# Altium integrated library NSC MiscPower.IntLib: 742 symbols (part 9 of 19)
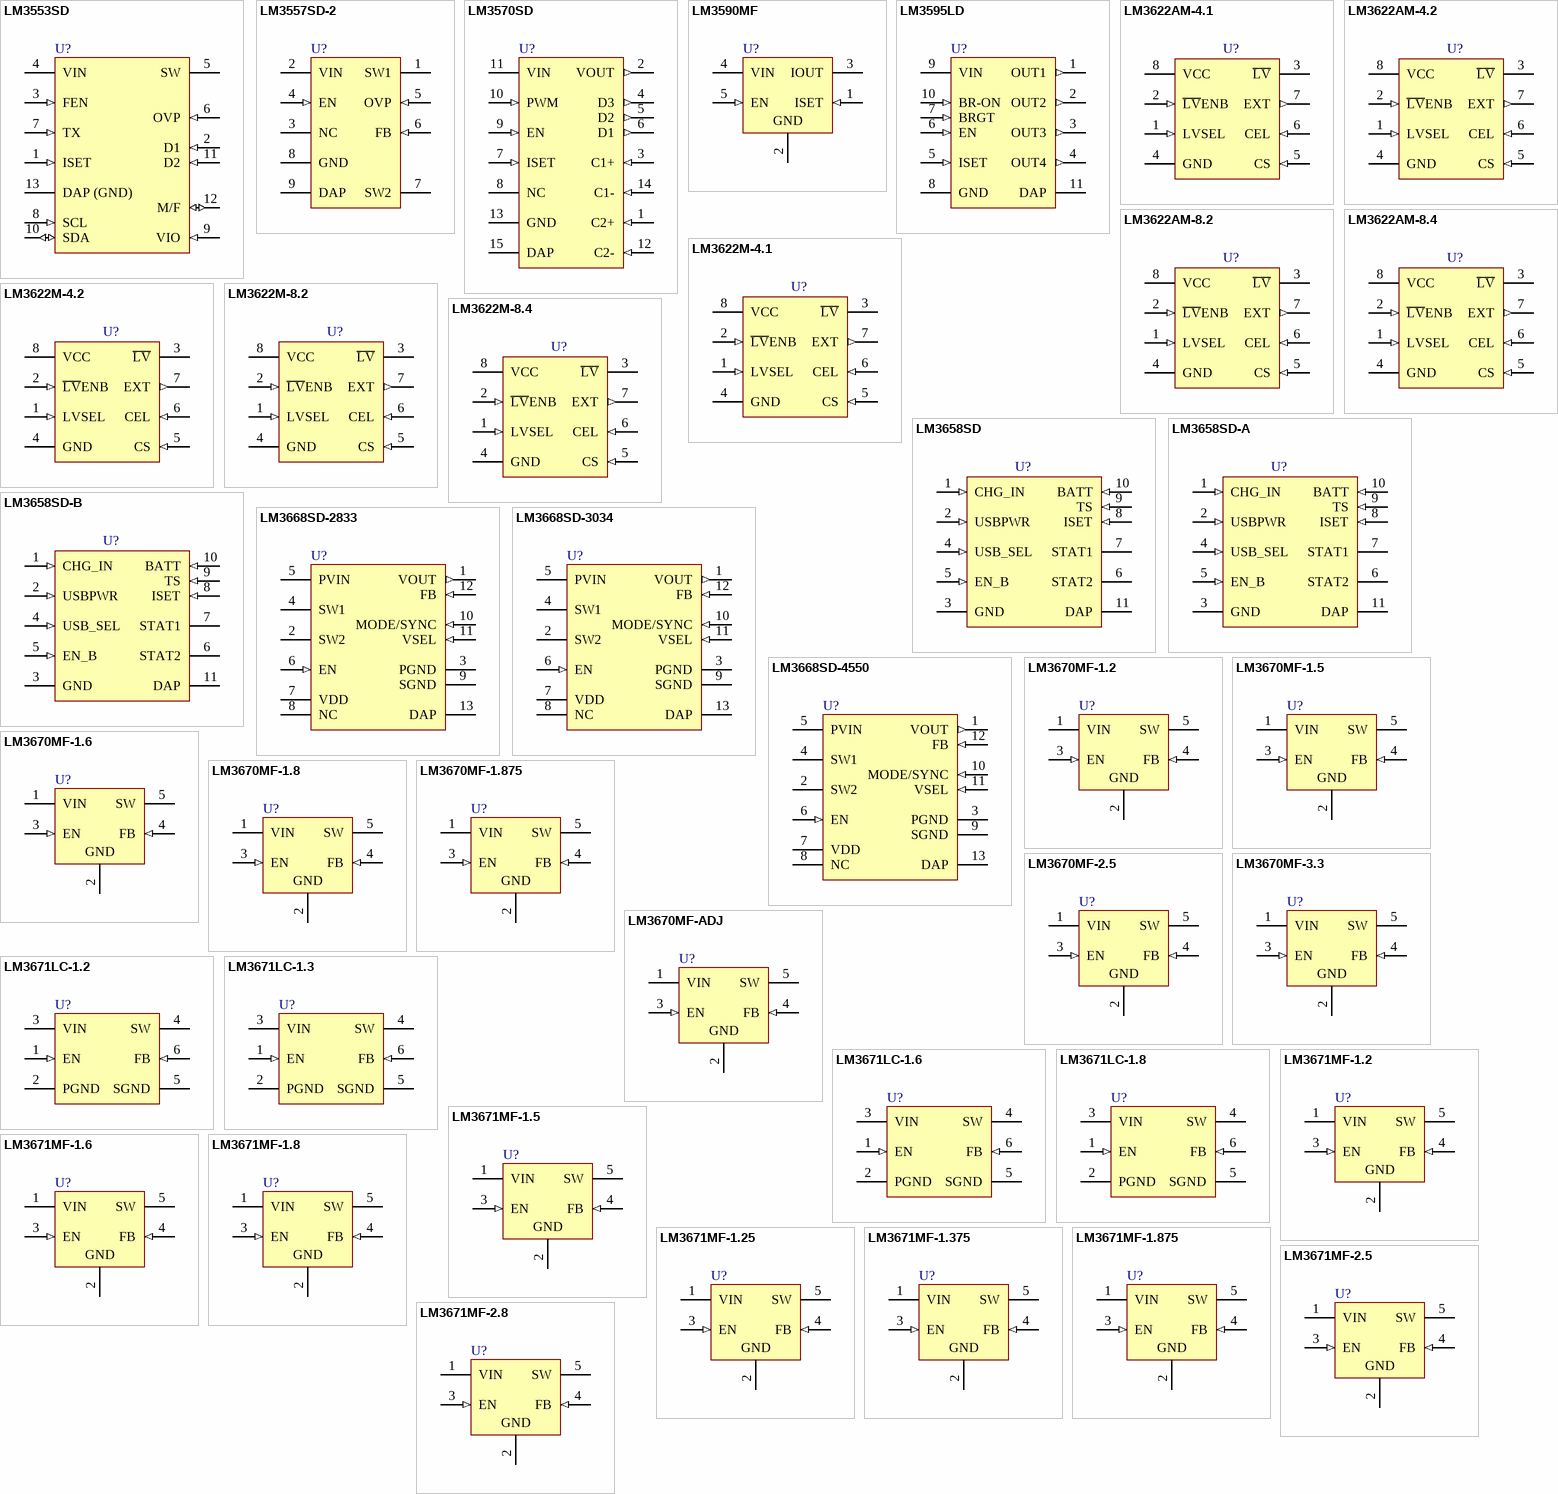
[diagram p33: symbols LM3553SD to LM3671MF-2.8]

## LM3557SD-2
designator U?
Step-Up Converter for White LED Applications; PartNumber: LM3557SD-2; Manufacturer: National Semiconductor; CompType: MiscPower; PackageTopMarking: ZXYTT*L147B; PowerWise: Y; FirstPublished: 4-Dec-2008; DatasheetVersion: May-2000; PackageVersion: revA, Aug-2003; PackageReference: SDA08A; Publisher: Altium Limited; PackageDescription: LLP, Plastic, Dual, 3 x 3 x 0.8mm Body, 8 Lead, 0.5mm Pitch, No Pullback; RoHS: Y; PinCount: 8; DigiKeyPartNumber: LM3557SD-2CT-ND; ComponentLink1Description: LM3557 Datasheet; ComponentLink1URL: http://www.national.com/ds/LM/LM3557.pdf; ComponentLink2Description: LM3557 Web Page; ComponentLink2URL: http://www.national.com/pf/LM/LM3557.html; ComponentLink3Description: SDA08A Package Page; ComponentLink3URL: http://www.national.com/packaging/folders/sda08a.html
footprint SDA08A (SON, 8-Leads, Body 3x3mm, Pitch 0.5mm, NSC Recommended)
pins: 1 SW1 (power), 2 VIN (power), 3 NC, 4 EN (in), 5 OVP (in), 6 FB (in), 7 SW2 (power), 8 GND (power), 9 DAP (power)

## LM3570SD
designator U?
Low Noise White LED Driver System; PartNumber: LM3570SD; Manufacturer: National Semiconductor; CompType: MiscPower; PackageTopMarking: ZXYTT*L3570; PowerWise: Y; FirstPublished: 4-Dec-2008; DatasheetVersion: Jul-2004; PackageVersion: revA, Jun-2003; PackageReference: SDA14A; Publisher: Altium Limited; PackageDescription: LLP, Plastic, Dual, 4 x 3 x 0.8mm Body, 14 Lead, 0.5mm Pitch, No Pullback; RoHS: O; PinCount: 14; DigiKeyPartNumber: LM3570SDCT-ND; ComponentLink1Description: LM3570 Datasheet; ComponentLink1URL: http://www.national.com/ds/LM/LM3570.pdf; ComponentLink2Description: LM3570 Web Page; ComponentLink2URL: http://www.national.com/pf/LM/LM3570.html; ComponentLink3Description: SDA14A Package Page; ComponentLink3URL: http://www.national.com/packaging/folders/sda14a.html
footprint SDA14A (SON, 14-Leads, Body 4x3mm, Pitch 0.5mm, NSC Recommended)
pins: 1 C2+ (in), 2 VOUT (out), 3 C1+ (in), 4 D3 (out), 5 D2 (out), 6 D1 (out), 7 ISET (in), 8 NC, 9 EN (in), 10 PWM (in), 11 VIN (power), 12 C2- (in), 13 GND (power), 14 C1- (in), 15 DAP (power)

## LM3590MF
designator U?
Series White LED Driver; PartNumber: LM3590MF; Manufacturer: National Semiconductor; CompType: MiscPower; PackageTopMarking: SABB*XTT; PowerWise: Y; FirstPublished: 4-Dec-2008; DatasheetVersion: Nov-2003; PackageVersion: revD, Aug-2008; PackageReference: MF05A; Publisher: Altium Limited; PackageDescription: Molded SOT-23, .115 x .063 x .040 in Body, 5 Lead, .0375 in Pitch; RoHS: O; PinCount: 5; DigiKeyPartNumber: LM3590MFEV-ND; ComponentLink1Description: LM3590 Datasheet; ComponentLink1URL: http://www.national.com/ds/LM/LM3590.pdf; ComponentLink2Description: LM3590 Web Page; ComponentLink2URL: http://www.national.com/pf/LM/LM3590.html; ComponentLink3Description: MF05A Package Page; ComponentLink3URL: http://www.national.com/packaging/folders/mf05a.html
footprint MF05A_N (SOT23, 5-Leads, Body 2.9x1.6mm, Pitch 0.95mm, Lead Span 2.8mm, IPC Medium Density)
footprint MF05A_L (SOT23, 5-Leads, Body 2.9x1.6mm, Pitch 0.95mm, Lead Span 2.8mm, IPC High Density)
footprint MF05A_M (SOT23, 5-Leads, Body 2.9x1.6mm, Pitch 0.95mm, Lead Span 2.8mm, IPC Low Density)
pins: 1 ISET (in), 2 GND (power), 3 IOUT (power), 4 VIN (power), 5 EN (in)

## LM3595LD
designator U?
Parallel White-LED Driver; PartNumber: LM3595LD; Manufacturer: National Semiconductor; CompType: MiscPower; PackageTopMarking: ZXYTT*L3595; PowerWise: Y; FirstPublished: 4-Dec-2008; DatasheetVersion: Aug-2003; PackageVersion: revB, Jan-2003; PackageReference: LDA10A; Publisher: Altium Limited; PackageDescription: LLP, Plastic, Dual, 3 x 3 x 0.75mm Body, 10 Lead, 0.5mm Pitch; RoHS: O; PinCount: 10; DigiKeyPartNumber: LM3595LDEV-ND; ComponentLink1Description: LM3595 Datasheet; ComponentLink1URL: http://www.national.com/ds/LM/LM3595.pdf; ComponentLink2Description: LM3595 Web Page; ComponentLink2URL: http://www.national.com/pf/LM/LM3595.html; ComponentLink3Description: LDA10A Package Page; ComponentLink3URL: http://www.national.com/packaging/folders/lda10a.html
footprint LDA10A (PSON, 10-Leads, Body 3x3mm, Pitch 0.5mm, NSC Recommended)
pins: 1 OUT1 (out), 2 OUT2 (out), 3 OUT3 (out), 4 OUT4 (out), 5 ISET (in), 6 EN (in), 7 BRGT (in), 8 GND (power), 9 VIN (power), 10 BR-ON (in), 11 DAP (power)

## LM3622AM-4.1
designator U?
Lithium-Ion Battery Charge Controller; PartNumber: LM3622AM-4.1; Manufacturer: National Semiconductor; CompType: MiscPower; PackageTopMarking: NSZXTT*3622A*M-4.1; FirstPublished: 4-Dec-2008; DatasheetVersion: Feb-2000; PackageVersion: revL, Sep-2006; PackageReference: M08A; Publisher: Altium Limited; PackageDescription: SOIC Narrow, 4.9 x 3.9 x 1.45mm, 8 Lead, 1.27mm Pitch; RoHS: Y; PinCount: 8; DigiKeyPartNumber: LM3622AM-4.1-ND; Code_JEDEC: MS-012-AA; Code_IPC: SOIC127P600-8; ComponentLink1Description: LM3622 Datasheet; ComponentLink1URL: http://www.national.com/ds/LM/LM3622.pdf; ComponentLink2Description: LM3622 Web Page; ComponentLink2URL: http://www.national.com/pf/LM/LM3622.html; ComponentLink3Description: M08A Package Page; ComponentLink3URL: http://www.national.com/packaging/folders/m08a.html
footprint M08A_N (SOIC, 8-Leads, Body 4.9x3.9mm, Pitch 1.27mm, IPC Medium Density)
footprint M08A_L (SOIC, 8-Leads, Body 4.9x3.9mm, Pitch 1.27mm, IPC High Density)
footprint M08A_M (SOIC, 8-Leads, Body 4.9x3.9mm, Pitch 1.27mm, IPC Low Density)
pins: 1 LVSEL (in), 2 ~{LV}ENB (in), 3 ~{LV} (oc), 4 GND (power), 5 CS (in), 6 CEL (in), 7 EXT (out), 8 VCC (power)

## LM3622AM-4.2
designator U?
Lithium-Ion Battery Charge Controller; PartNumber: LM3622AM-4.2; Manufacturer: National Semiconductor; CompType: MiscPower; PackageTopMarking: NSZXTT*3622A*M-4.2; FirstPublished: 4-Dec-2008; DatasheetVersion: Feb-2000; PackageVersion: revL, Sep-2006; PackageReference: M08A; Publisher: Altium Limited; PackageDescription: SOIC Narrow, 4.9 x 3.9 x 1.45mm, 8 Lead, 1.27mm Pitch; RoHS: Y; PinCount: 8; DigiKeyPartNumber: LM3622AM-4.2-ND; Code_JEDEC: MS-012-AA; Code_IPC: SOIC127P600-8; ComponentLink1Description: LM3622 Datasheet; ComponentLink1URL: http://www.national.com/ds/LM/LM3622.pdf; ComponentLink2Description: LM3622 Web Page; ComponentLink2URL: http://www.national.com/pf/LM/LM3622.html; ComponentLink3Description: M08A Package Page; ComponentLink3URL: http://www.national.com/packaging/folders/m08a.html
footprint M08A_N (SOIC, 8-Leads, Body 4.9x3.9mm, Pitch 1.27mm, IPC Medium Density)
footprint M08A_L (SOIC, 8-Leads, Body 4.9x3.9mm, Pitch 1.27mm, IPC High Density)
footprint M08A_M (SOIC, 8-Leads, Body 4.9x3.9mm, Pitch 1.27mm, IPC Low Density)
pins: 1 LVSEL (in), 2 ~{LV}ENB (in), 3 ~{LV} (oc), 4 GND (power), 5 CS (in), 6 CEL (in), 7 EXT (out), 8 VCC (power)

## LM3622AM-8.2
designator U?
Lithium-Ion Battery Charge Controller; PartNumber: LM3622AM-8.2; Manufacturer: National Semiconductor; CompType: MiscPower; PackageTopMarking: NSZXTT*3622A*M-8.2; FirstPublished: 4-Dec-2008; DatasheetVersion: Feb-2000; PackageVersion: revL, Sep-2006; PackageReference: M08A; Publisher: Altium Limited; PackageDescription: SOIC Narrow, 4.9 x 3.9 x 1.45mm, 8 Lead, 1.27mm Pitch; RoHS: N; PinCount: 8; DigiKeyPartNumber: LM3622AM-8.2-ND; Code_JEDEC: MS-012-AA; Code_IPC: SOIC127P600-8; ComponentLink1Description: LM3622 Datasheet; ComponentLink1URL: http://www.national.com/ds/LM/LM3622.pdf; ComponentLink2Description: LM3622 Web Page; ComponentLink2URL: http://www.national.com/pf/LM/LM3622.html; ComponentLink3Description: M08A Package Page; ComponentLink3URL: http://www.national.com/packaging/folders/m08a.html
footprint M08A_N (SOIC, 8-Leads, Body 4.9x3.9mm, Pitch 1.27mm, IPC Medium Density)
footprint M08A_L (SOIC, 8-Leads, Body 4.9x3.9mm, Pitch 1.27mm, IPC High Density)
footprint M08A_M (SOIC, 8-Leads, Body 4.9x3.9mm, Pitch 1.27mm, IPC Low Density)
pins: 1 LVSEL (in), 2 ~{LV}ENB (in), 3 ~{LV} (oc), 4 GND (power), 5 CS (in), 6 CEL (in), 7 EXT (out), 8 VCC (power)

## LM3622AM-8.4
designator U?
Lithium-Ion Battery Charge Controller; PartNumber: LM3622AM-8.4; Manufacturer: National Semiconductor; CompType: MiscPower; PackageTopMarking: NSZXTT*3622A*M-8.4; FirstPublished: 4-Dec-2008; DatasheetVersion: Feb-2000; PackageVersion: revL, Sep-2006; PackageReference: M08A; Publisher: Altium Limited; PackageDescription: SOIC Narrow, 4.9 x 3.9 x 1.45mm, 8 Lead, 1.27mm Pitch; RoHS: Y; PinCount: 8; DigiKeyPartNumber: LM3622AM-8.4-ND; Code_JEDEC: MS-012-AA; Code_IPC: SOIC127P600-8; ComponentLink1Description: LM3622 Datasheet; ComponentLink1URL: http://www.national.com/ds/LM/LM3622.pdf; ComponentLink2Description: LM3622 Web Page; ComponentLink2URL: http://www.national.com/pf/LM/LM3622.html; ComponentLink3Description: M08A Package Page; ComponentLink3URL: http://www.national.com/packaging/folders/m08a.html
footprint M08A_N (SOIC, 8-Leads, Body 4.9x3.9mm, Pitch 1.27mm, IPC Medium Density)
footprint M08A_L (SOIC, 8-Leads, Body 4.9x3.9mm, Pitch 1.27mm, IPC High Density)
footprint M08A_M (SOIC, 8-Leads, Body 4.9x3.9mm, Pitch 1.27mm, IPC Low Density)
pins: 1 LVSEL (in), 2 ~{LV}ENB (in), 3 ~{LV} (oc), 4 GND (power), 5 CS (in), 6 CEL (in), 7 EXT (out), 8 VCC (power)

## LM3622M-4.1
designator U?
Lithium-Ion Battery Charge Controller; PartNumber: LM3622M-4.1; Manufacturer: National Semiconductor; CompType: MiscPower; PackageTopMarking: NSZXTT*3622*M-4.1; FirstPublished: 4-Dec-2008; DatasheetVersion: Feb-2000; PackageVersion: revL, Sep-2006; PackageReference: M08A; Publisher: Altium Limited; PackageDescription: SOIC Narrow, 4.9 x 3.9 x 1.45mm, 8 Lead, 1.27mm Pitch; RoHS: Y; PinCount: 8; DigiKeyPartNumber: LM3622M-4.1-ND; Code_JEDEC: MS-012-AA; Code_IPC: SOIC127P600-8; ComponentLink1Description: LM3622 Datasheet; ComponentLink1URL: http://www.national.com/ds/LM/LM3622.pdf; ComponentLink2Description: LM3622 Web Page; ComponentLink2URL: http://www.national.com/pf/LM/LM3622.html; ComponentLink3Description: M08A Package Page; ComponentLink3URL: http://www.national.com/packaging/folders/m08a.html
footprint M08A_N (SOIC, 8-Leads, Body 4.9x3.9mm, Pitch 1.27mm, IPC Medium Density)
footprint M08A_L (SOIC, 8-Leads, Body 4.9x3.9mm, Pitch 1.27mm, IPC High Density)
footprint M08A_M (SOIC, 8-Leads, Body 4.9x3.9mm, Pitch 1.27mm, IPC Low Density)
pins: 1 LVSEL (in), 2 ~{LV}ENB (in), 3 ~{LV} (oc), 4 GND (power), 5 CS (in), 6 CEL (in), 7 EXT (out), 8 VCC (power)

## LM3622M-4.2
designator U?
Lithium-Ion Battery Charge Controller; PartNumber: LM3622M-4.2; Manufacturer: National Semiconductor; CompType: MiscPower; PackageTopMarking: NSZXTT*3622*M-4.2; FirstPublished: 4-Dec-2008; DatasheetVersion: Feb-2000; PackageVersion: revL, Sep-2006; PackageReference: M08A; Publisher: Altium Limited; PackageDescription: SOIC Narrow, 4.9 x 3.9 x 1.45mm, 8 Lead, 1.27mm Pitch; RoHS: Y; PinCount: 8; DigiKeyPartNumber: LM3622M-4.2-ND; Code_JEDEC: MS-012-AA; Code_IPC: SOIC127P600-8; ComponentLink1Description: LM3622 Datasheet; ComponentLink1URL: http://www.national.com/ds/LM/LM3622.pdf; ComponentLink2Description: LM3622 Web Page; ComponentLink2URL: http://www.national.com/pf/LM/LM3622.html; ComponentLink3Description: M08A Package Page; ComponentLink3URL: http://www.national.com/packaging/folders/m08a.html
footprint M08A_N (SOIC, 8-Leads, Body 4.9x3.9mm, Pitch 1.27mm, IPC Medium Density)
footprint M08A_L (SOIC, 8-Leads, Body 4.9x3.9mm, Pitch 1.27mm, IPC High Density)
footprint M08A_M (SOIC, 8-Leads, Body 4.9x3.9mm, Pitch 1.27mm, IPC Low Density)
pins: 1 LVSEL (in), 2 ~{LV}ENB (in), 3 ~{LV} (oc), 4 GND (power), 5 CS (in), 6 CEL (in), 7 EXT (out), 8 VCC (power)

## LM3622M-8.2
designator U?
Lithium-Ion Battery Charge Controller; PartNumber: LM3622M-8.2; Manufacturer: National Semiconductor; CompType: MiscPower; PackageTopMarking: NSZXTT*3622*M-8.2; FirstPublished: 4-Dec-2008; DatasheetVersion: Feb-2000; PackageVersion: revL, Sep-2006; PackageReference: M08A; Publisher: Altium Limited; PackageDescription: SOIC Narrow, 4.9 x 3.9 x 1.45mm, 8 Lead, 1.27mm Pitch; RoHS: Y; PinCount: 8; DigiKeyPartNumber: LM3622M-8.2-ND; Code_JEDEC: MS-012-AA; Code_IPC: SOIC127P600-8; ComponentLink1Description: LM3622 Datasheet; ComponentLink1URL: http://www.national.com/ds/LM/LM3622.pdf; ComponentLink2Description: LM3622 Web Page; ComponentLink2URL: http://www.national.com/pf/LM/LM3622.html; ComponentLink3Description: M08A Package Page; ComponentLink3URL: http://www.national.com/packaging/folders/m08a.html
footprint M08A_N (SOIC, 8-Leads, Body 4.9x3.9mm, Pitch 1.27mm, IPC Medium Density)
footprint M08A_L (SOIC, 8-Leads, Body 4.9x3.9mm, Pitch 1.27mm, IPC High Density)
footprint M08A_M (SOIC, 8-Leads, Body 4.9x3.9mm, Pitch 1.27mm, IPC Low Density)
pins: 1 LVSEL (in), 2 ~{LV}ENB (in), 3 ~{LV} (oc), 4 GND (power), 5 CS (in), 6 CEL (in), 7 EXT (out), 8 VCC (power)

## LM3622M-8.4
designator U?
Lithium-Ion Battery Charge Controller; PartNumber: LM3622M-8.4; Manufacturer: National Semiconductor; CompType: MiscPower; PackageTopMarking: NSZXTT*3622*M-8.4; FirstPublished: 4-Dec-2008; DatasheetVersion: Feb-2000; PackageVersion: revL, Sep-2006; PackageReference: M08A; Publisher: Altium Limited; PackageDescription: SOIC Narrow, 4.9 x 3.9 x 1.45mm, 8 Lead, 1.27mm Pitch; RoHS: Y; PinCount: 8; DigiKeyPartNumber: LM3622M-8.4-ND; Code_JEDEC: MS-012-AA; Code_IPC: SOIC127P600-8; ComponentLink1Description: LM3622 Datasheet; ComponentLink1URL: http://www.national.com/ds/LM/LM3622.pdf; ComponentLink2Description: LM3622 Web Page; ComponentLink2URL: http://www.national.com/pf/LM/LM3622.html; ComponentLink3Description: M08A Package Page; ComponentLink3URL: http://www.national.com/packaging/folders/m08a.html
footprint M08A_N (SOIC, 8-Leads, Body 4.9x3.9mm, Pitch 1.27mm, IPC Medium Density)
footprint M08A_L (SOIC, 8-Leads, Body 4.9x3.9mm, Pitch 1.27mm, IPC High Density)
footprint M08A_M (SOIC, 8-Leads, Body 4.9x3.9mm, Pitch 1.27mm, IPC Low Density)
pins: 1 LVSEL (in), 2 ~{LV}ENB (in), 3 ~{LV} (oc), 4 GND (power), 5 CS (in), 6 CEL (in), 7 EXT (out), 8 VCC (power)

## LM3658SD
designator U?
Dual Source USB/AC Li Chemistry Charger IC for Portable Applications; PartNumber: LM3658SD; Manufacturer: National Semiconductor; CompType: MiscPower; PackageTopMarking: ZXYTT*L111B; PowerWise: N; FirstPublished: 4-Dec-2008; DatasheetVersion: Nov-2006; PackageVersion: revA, Oct-2003; PackageReference: SDA10A; Publisher: Altium Limited; PackageDescription: LLP, Plastic, Dual, 3 x 3 x 0.8mm Body, 10 Lead, 0.5mm Pitch, No Pullback; RoHS: Y; PinCount: 10; DigiKeyPartNumber: LM3658SDCT-ND; ComponentLink1Description: LM3658 Datasheet; ComponentLink1URL: http://www.national.com/ds/LM/LM3658.pdf; ComponentLink2Description: LM3658 Web Page; ComponentLink2URL: http://www.national.com/pf/LM/LM3658.html; ComponentLink3Description: SDA10A Package Page; ComponentLink3URL: http://www.national.com/packaging/folders/sda10a.html
footprint SDA10A (SON, 10-Leads, Body 3x3 mm, Pitch 0.5mm, NSC Recommended)
pins: 1 CHG_IN (in), 2 USBPWR (in), 3 GND (power), 4 USB_SEL (in), 5 EN_B (in), 6 STAT2 (oc), 7 STAT1 (oc), 8 ISET (in), 9 TS (in), 10 BATT (in), 11 DAP (power)

## LM3658SD-A
designator U?
Dual Source USB/AC Li Chemistry Charger IC for Portable Applications; PartNumber: LM3658SD-A; Manufacturer: National Semiconductor; CompType: MiscPower; PackageTopMarking: ZXYTT*L155B; PowerWise: N; FirstPublished: 4-Dec-2008; DatasheetVersion: Nov-2006; PackageVersion: revA, Oct-2003; PackageReference: SDA10A; Publisher: Altium Limited; PackageDescription: LLP, Plastic, Dual, 3 x 3 x 0.8mm Body, 10 Lead, 0.5mm Pitch, No Pullback; RoHS: Y; PinCount: 10; DigiKeyPartNumber: LM3658SD-ACT-ND; ComponentLink1Description: LM3658 Datasheet; ComponentLink1URL: http://www.national.com/ds/LM/LM3658.pdf; ComponentLink2Description: LM3658 Web Page; ComponentLink2URL: http://www.national.com/pf/LM/LM3658.html; ComponentLink3Description: SDA10A Package Page; ComponentLink3URL: http://www.national.com/packaging/folders/sda10a.html
footprint SDA10A (SON, 10-Leads, Body 3x3 mm, Pitch 0.5mm, NSC Recommended)
pins: 1 CHG_IN (in), 2 USBPWR (in), 3 GND (power), 4 USB_SEL (in), 5 EN_B (in), 6 STAT2 (oc), 7 STAT1 (oc), 8 ISET (in), 9 TS (in), 10 BATT (in), 11 DAP (power)

## LM3658SD-B
designator U?
Dual Source USB/AC Li Chemistry Charger IC for Portable Applications; PartNumber: LM3658SD-B; Manufacturer: National Semiconductor; CompType: MiscPower; PackageTopMarking: ZXYTT*L156B; PowerWise: N; FirstPublished: 4-Dec-2008; DatasheetVersion: Nov-2006; PackageVersion: revA, Oct-2003; PackageReference: SDA10A; Publisher: Altium Limited; PackageDescription: LLP, Plastic, Dual, 3 x 3 x 0.8mm Body, 10 Lead, 0.5mm Pitch, No Pullback; RoHS: Y; PinCount: 10; DigiKeyPartNumber: LM3658SD-BCT-ND; ComponentLink1Description: LM3658 Datasheet; ComponentLink1URL: http://www.national.com/ds/LM/LM3658.pdf; ComponentLink2Description: LM3658 Web Page; ComponentLink2URL: http://www.national.com/pf/LM/LM3658.html; ComponentLink3Description: SDA10A Package Page; ComponentLink3URL: http://www.national.com/packaging/folders/sda10a.html
footprint SDA10A (SON, 10-Leads, Body 3x3 mm, Pitch 0.5mm, NSC Recommended)
pins: 1 CHG_IN (in), 2 USBPWR (in), 3 GND (power), 4 USB_SEL (in), 5 EN_B (in), 6 STAT2 (oc), 7 STAT1 (oc), 8 ISET (in), 9 TS (in), 10 BATT (in), 11 DAP (power)

## LM3668SD-2833
designator U?
1A, High Efficiency Dual Mode Single Inductor Buck-Boost DC/DC Converter; PartNumber: LM3668SD-2833; Manufacturer: National Semiconductor; CompType: MiscPower; PackageTopMarking: ZXYTT*S017B; PowerWise: Y; FirstPublished: 4-Dec-2008; DatasheetVersion: Sep-2008; PackageVersion: revB, Jul-2008; PackageReference: SDF12A; Publisher: Altium Limited; PackageDescription: LLP, Plastic, Dual, 3 x 3 x 0.8mm Body, 12 Lead, 0.4mm Pitch, No Pullback; RoHS: Y; PinCount: 12; DigiKeyPartNumber: LM3668SD-2833EV-ND; ComponentLink1Description: LM3668 Datasheet; ComponentLink1URL: http://www.national.com/ds/LM/LM3668.pdf; ComponentLink2Description: LM3668 Web Page; ComponentLink2URL: http://www.national.com/pf/LM/LM3668.html; ComponentLink3Description: SDF12A Package Page; ComponentLink3URL: http://www.national.com/packaging/folders/sdf12a.html
footprint SDF12A (SON, 12-Leads, Body 3x3mm, Pitch 0.4mm, NSC Recommended)
pins: 1 VOUT (out), 2 SW2 (power), 3 PGND (power), 4 SW1 (power), 5 PVIN (power), 6 EN (in), 7 VDD (power), 8 NC, 9 SGND (power), 10 MODE/SYNC (in), 11 VSEL (in), 12 FB (in), 13 DAP (power)

## LM3668SD-3034
designator U?
1A, High Efficiency Dual Mode Single Inductor Buck-Boost DC/DC Converter; PartNumber: LM3668SD-3034; Manufacturer: National Semiconductor; CompType: MiscPower; PackageTopMarking: ZXYTT*S018B; PowerWise: Y; FirstPublished: 4-Dec-2008; DatasheetVersion: Sep-2008; PackageVersion: revB, Jul-2008; PackageReference: SDF12A; Publisher: Altium Limited; PackageDescription: LLP, Plastic, Dual, 3 x 3 x 0.8mm Body, 12 Lead, 0.4mm Pitch, No Pullback; RoHS: Y; PinCount: 12; DigiKeyPartNumber: LM3668SD-3034EV-ND; ComponentLink1Description: LM3668 Datasheet; ComponentLink1URL: http://www.national.com/ds/LM/LM3668.pdf; ComponentLink2Description: LM3668 Web Page; ComponentLink2URL: http://www.national.com/pf/LM/LM3668.html; ComponentLink3Description: SDF12A Package Page; ComponentLink3URL: http://www.national.com/packaging/folders/sdf12a.html
footprint SDF12A (SON, 12-Leads, Body 3x3mm, Pitch 0.4mm, NSC Recommended)
pins: 1 VOUT (out), 2 SW2 (power), 3 PGND (power), 4 SW1 (power), 5 PVIN (power), 6 EN (in), 7 VDD (power), 8 NC, 9 SGND (power), 10 MODE/SYNC (in), 11 VSEL (in), 12 FB (in), 13 DAP (power)

## LM3668SD-4550
designator U?
1A, High Efficiency Dual Mode Single Inductor Buck-Boost DC/DC Converter; PartNumber: LM3668SD-4550; Manufacturer: National Semiconductor; CompType: MiscPower; PackageTopMarking: ZXYTT*S019B; PowerWise: Y; FirstPublished: 4-Dec-2008; DatasheetVersion: Sep-2008; PackageVersion: revB, Jul-2008; PackageReference: SDF12A; Publisher: Altium Limited; PackageDescription: LLP, Plastic, Dual, 3 x 3 x 0.8mm Body, 12 Lead, 0.4mm Pitch, No Pullback; RoHS: Y; PinCount: 12; DigiKeyPartNumber: LM3668SD-4550EV-ND; ComponentLink1Description: LM3668 Datasheet; ComponentLink1URL: http://www.national.com/ds/LM/LM3668.pdf; ComponentLink2Description: LM3668 Web Page; ComponentLink2URL: http://www.national.com/pf/LM/LM3668.html; ComponentLink3Description: SDF12A Package Page; ComponentLink3URL: http://www.national.com/packaging/folders/sdf12a.html
footprint SDF12A (SON, 12-Leads, Body 3x3mm, Pitch 0.4mm, NSC Recommended)
pins: 1 VOUT (out), 2 SW2 (power), 3 PGND (power), 4 SW1 (power), 5 PVIN (power), 6 EN (in), 7 VDD (power), 8 NC, 9 SGND (power), 10 MODE/SYNC (in), 11 VSEL (in), 12 FB (in), 13 DAP (power)

## LM3670MF-1.2
designator U?
Miniature Step-Down DC-DC Converter for Ultra Low Voltage Circuits; PartNumber: LM3670MF-1.2; Manufacturer: National Semiconductor; CompType: MiscPower; PackageTopMarking: SCZB*XTT; PowerWise: Y; FirstPublished: 4-Dec-2008; DatasheetVersion: Jan-2006; PackageVersion: revD, Aug-2008; PackageReference: MF05A; Publisher: Altium Limited; PackageDescription: Molded SOT-23, .115 x .063 x .040 in Body, 5 Lead, .0375 in Pitch; RoHS: Y; PinCount: 5; DigiKeyPartNumber: LM3670MF-1.2EV-ND; ComponentLink1Description: LM3670 Datasheet; ComponentLink1URL: http://www.national.com/ds/LM/LM3670.pdf; ComponentLink2Description: LM3670 Web Page; ComponentLink2URL: http://www.national.com/pf/LM/LM3670.html; ComponentLink3Description: MF05A Package Page; ComponentLink3URL: http://www.national.com/packaging/folders/mf05a.html
footprint MF05A_N (SOT23, 5-Leads, Body 2.9x1.6mm, Pitch 0.95mm, Lead Span 2.8mm, IPC Medium Density)
footprint MF05A_L (SOT23, 5-Leads, Body 2.9x1.6mm, Pitch 0.95mm, Lead Span 2.8mm, IPC High Density)
footprint MF05A_M (SOT23, 5-Leads, Body 2.9x1.6mm, Pitch 0.95mm, Lead Span 2.8mm, IPC Low Density)
pins: 1 VIN (power), 2 GND (power), 3 EN (in), 4 FB (in), 5 SW (power)

## LM3670MF-1.5
designator U?
Miniature Step-Down DC-DC Converter for Ultra Low Voltage Circuits; PartNumber: LM3670MF-1.5; Manufacturer: National Semiconductor; CompType: MiscPower; PackageTopMarking: S82B*XTT; PowerWise: Y; FirstPublished: 4-Dec-2008; DatasheetVersion: Jan-2006; PackageVersion: revD, Aug-2008; PackageReference: MF05A; Publisher: Altium Limited; PackageDescription: Molded SOT-23, .115 x .063 x .040 in Body, 5 Lead, .0375 in Pitch; RoHS: Y; PinCount: 5; DigiKeyPartNumber: LM3670MF-1.5EV-ND; ComponentLink1Description: LM3670 Datasheet; ComponentLink1URL: http://www.national.com/ds/LM/LM3670.pdf; ComponentLink2Description: LM3670 Web Page; ComponentLink2URL: http://www.national.com/pf/LM/LM3670.html; ComponentLink3Description: MF05A Package Page; ComponentLink3URL: http://www.national.com/packaging/folders/mf05a.html
footprint MF05A_N (SOT23, 5-Leads, Body 2.9x1.6mm, Pitch 0.95mm, Lead Span 2.8mm, IPC Medium Density)
footprint MF05A_L (SOT23, 5-Leads, Body 2.9x1.6mm, Pitch 0.95mm, Lead Span 2.8mm, IPC High Density)
footprint MF05A_M (SOT23, 5-Leads, Body 2.9x1.6mm, Pitch 0.95mm, Lead Span 2.8mm, IPC Low Density)
pins: 1 VIN (power), 2 GND (power), 3 EN (in), 4 FB (in), 5 SW (power)

## LM3670MF-1.6
designator U?
Miniature Step-Down DC-DC Converter for Ultra Low Voltage Circuits; PartNumber: LM3670MF-1.6; Manufacturer: National Semiconductor; CompType: MiscPower; PackageTopMarking: SDBB*XTT; PowerWise: Y; FirstPublished: 4-Dec-2008; DatasheetVersion: Jan-2006; PackageVersion: revD, Aug-2008; PackageReference: MF05A; Publisher: Altium Limited; PackageDescription: Molded SOT-23, .115 x .063 x .040 in Body, 5 Lead, .0375 in Pitch; RoHS: Y; PinCount: 5; DigiKeyPartNumber: LM3670MF-1.6CT-ND; ComponentLink1Description: LM3670 Datasheet; ComponentLink1URL: http://www.national.com/ds/LM/LM3670.pdf; ComponentLink2Description: LM3670 Web Page; ComponentLink2URL: http://www.national.com/pf/LM/LM3670.html; ComponentLink3Description: MF05A Package Page; ComponentLink3URL: http://www.national.com/packaging/folders/mf05a.html
footprint MF05A_N (SOT23, 5-Leads, Body 2.9x1.6mm, Pitch 0.95mm, Lead Span 2.8mm, IPC Medium Density)
footprint MF05A_L (SOT23, 5-Leads, Body 2.9x1.6mm, Pitch 0.95mm, Lead Span 2.8mm, IPC High Density)
footprint MF05A_M (SOT23, 5-Leads, Body 2.9x1.6mm, Pitch 0.95mm, Lead Span 2.8mm, IPC Low Density)
pins: 1 VIN (power), 2 GND (power), 3 EN (in), 4 FB (in), 5 SW (power)

## LM3670MF-1.8
designator U?
Miniature Step-Down DC-DC Converter for Ultra Low Voltage Circuits; PartNumber: LM3670MF-1.8; Manufacturer: National Semiconductor; CompType: MiscPower; PackageTopMarking: SDCB*XTT; PowerWise: Y; FirstPublished: 4-Dec-2008; DatasheetVersion: Jan-2006; PackageVersion: revD, Aug-2008; PackageReference: MF05A; Publisher: Altium Limited; PackageDescription: Molded SOT-23, .115 x .063 x .040 in Body, 5 Lead, .0375 in Pitch; RoHS: O; PinCount: 5; DigiKeyPartNumber: LM3670MF-1.8EV-ND; ComponentLink1Description: LM3670 Datasheet; ComponentLink1URL: http://www.national.com/ds/LM/LM3670.pdf; ComponentLink2Description: LM3670 Web Page; ComponentLink2URL: http://www.national.com/pf/LM/LM3670.html; ComponentLink3Description: MF05A Package Page; ComponentLink3URL: http://www.national.com/packaging/folders/mf05a.html
footprint MF05A_N (SOT23, 5-Leads, Body 2.9x1.6mm, Pitch 0.95mm, Lead Span 2.8mm, IPC Medium Density)
footprint MF05A_L (SOT23, 5-Leads, Body 2.9x1.6mm, Pitch 0.95mm, Lead Span 2.8mm, IPC High Density)
footprint MF05A_M (SOT23, 5-Leads, Body 2.9x1.6mm, Pitch 0.95mm, Lead Span 2.8mm, IPC Low Density)
pins: 1 VIN (power), 2 GND (power), 3 EN (in), 4 FB (in), 5 SW (power)

## LM3670MF-1.875
designator U?
Miniature Step-Down DC-DC Converter for Ultra Low Voltage Circuits; PartNumber: LM3670MF-1.875; Manufacturer: National Semiconductor; CompType: MiscPower; PackageTopMarking: SEFB*XTT; PowerWise: Y; FirstPublished: 4-Dec-2008; DatasheetVersion: Jan-2006; PackageVersion: revD, Aug-2008; PackageReference: MF05A; Publisher: Altium Limited; PackageDescription: Molded SOT-23, .115 x .063 x .040 in Body, 5 Lead, .0375 in Pitch; RoHS: Y; PinCount: 5; DigiKeyPartNumber: LM3670MF-1.875CT-ND; ComponentLink1Description: LM3670 Datasheet; ComponentLink1URL: http://www.national.com/ds/LM/LM3670.pdf; ComponentLink2Description: LM3670 Web Page; ComponentLink2URL: http://www.national.com/pf/LM/LM3670.html; ComponentLink3Description: MF05A Package Page; ComponentLink3URL: http://www.national.com/packaging/folders/mf05a.html
footprint MF05A_N (SOT23, 5-Leads, Body 2.9x1.6mm, Pitch 0.95mm, Lead Span 2.8mm, IPC Medium Density)
footprint MF05A_L (SOT23, 5-Leads, Body 2.9x1.6mm, Pitch 0.95mm, Lead Span 2.8mm, IPC High Density)
footprint MF05A_M (SOT23, 5-Leads, Body 2.9x1.6mm, Pitch 0.95mm, Lead Span 2.8mm, IPC Low Density)
pins: 1 VIN (power), 2 GND (power), 3 EN (in), 4 FB (in), 5 SW (power)

## LM3670MF-2.5
designator U?
Miniature Step-Down DC-DC Converter for Ultra Low Voltage Circuits; PartNumber: LM3670MF-2.5; Manufacturer: National Semiconductor; CompType: MiscPower; PackageTopMarking: SDDB*XTT; FirstPublished: 4-Dec-2008; DatasheetVersion: Jan-2006; PackageVersion: revD, Aug-2008; PackageReference: MF05A; Publisher: Altium Limited; PackageDescription: Molded SOT-23, .115 x .063 x .040 in Body, 5 Lead, .0375 in Pitch; RoHS: O; PinCount: 5; DigiKeyPartNumber: LM3670MF-2.5EV-ND; ComponentLink1Description: LM3670 Datasheet; ComponentLink1URL: http://www.national.com/ds/LM/LM3670.pdf; ComponentLink2Description: LM3670 Web Page; ComponentLink2URL: http://www.national.com/pf/LM/LM3670.html; ComponentLink3Description: MF05A Package Page; ComponentLink3URL: http://www.national.com/packaging/folders/mf05a.html
footprint MF05A_N (SOT23, 5-Leads, Body 2.9x1.6mm, Pitch 0.95mm, Lead Span 2.8mm, IPC Medium Density)
footprint MF05A_L (SOT23, 5-Leads, Body 2.9x1.6mm, Pitch 0.95mm, Lead Span 2.8mm, IPC High Density)
footprint MF05A_M (SOT23, 5-Leads, Body 2.9x1.6mm, Pitch 0.95mm, Lead Span 2.8mm, IPC Low Density)
pins: 1 VIN (power), 2 GND (power), 3 EN (in), 4 FB (in), 5 SW (power)

## LM3670MF-3.3
designator U?
Miniature Step-Down DC-DC Converter for Ultra Low Voltage Circuits; PartNumber: LM3670MF-3.3; Manufacturer: National Semiconductor; CompType: MiscPower; PackageTopMarking: SDEB*XTT; PowerWise: Y; FirstPublished: 4-Dec-2008; DatasheetVersion: Jan-2006; PackageVersion: revD, Aug-2008; PackageReference: MF05A; Publisher: Altium Limited; PackageDescription: Molded SOT-23, .115 x .063 x .040 in Body, 5 Lead, .0375 in Pitch; RoHS: O; PinCount: 5; DigiKeyPartNumber: LM3670MF-3.3CT-ND; ComponentLink1Description: LM3670 Datasheet; ComponentLink1URL: http://www.national.com/ds/LM/LM3670.pdf; ComponentLink2Description: LM3670 Web Page; ComponentLink2URL: http://www.national.com/pf/LM/LM3670.html; ComponentLink3Description: MF05A Package Page; ComponentLink3URL: http://www.national.com/packaging/folders/mf05a.html
footprint MF05A_N (SOT23, 5-Leads, Body 2.9x1.6mm, Pitch 0.95mm, Lead Span 2.8mm, IPC Medium Density)
footprint MF05A_L (SOT23, 5-Leads, Body 2.9x1.6mm, Pitch 0.95mm, Lead Span 2.8mm, IPC High Density)
footprint MF05A_M (SOT23, 5-Leads, Body 2.9x1.6mm, Pitch 0.95mm, Lead Span 2.8mm, IPC Low Density)
pins: 1 VIN (power), 2 GND (power), 3 EN (in), 4 FB (in), 5 SW (power)

## LM3670MF-ADJ
designator U?
Miniature Step-Down DC-DC Converter for Ultra Low Voltage Circuits; PartNumber: LM3670MF-ADJ; Manufacturer: National Semiconductor; CompType: MiscPower; PackageTopMarking: SDFB*XTT; PowerWise: Y; FirstPublished: 4-Dec-2008; DatasheetVersion: Jan-2006; PackageVersion: revD, Aug-2008; PackageReference: MF05A; Publisher: Altium Limited; PackageDescription: Molded SOT-23, .115 x .063 x .040 in Body, 5 Lead, .0375 in Pitch; RoHS: Y; PinCount: 5; DigiKeyPartNumber: LM3670MF-ADJCT-ND; ComponentLink1Description: LM3670 Datasheet; ComponentLink1URL: http://www.national.com/ds/LM/LM3670.pdf; ComponentLink2Description: LM3670 Web Page; ComponentLink2URL: http://www.national.com/pf/LM/LM3670.html; ComponentLink3Description: MF05A Package Page; ComponentLink3URL: http://www.national.com/packaging/folders/mf05a.html
footprint MF05A_N (SOT23, 5-Leads, Body 2.9x1.6mm, Pitch 0.95mm, Lead Span 2.8mm, IPC Medium Density)
footprint MF05A_L (SOT23, 5-Leads, Body 2.9x1.6mm, Pitch 0.95mm, Lead Span 2.8mm, IPC High Density)
footprint MF05A_M (SOT23, 5-Leads, Body 2.9x1.6mm, Pitch 0.95mm, Lead Span 2.8mm, IPC Low Density)
pins: 1 VIN (power), 2 GND (power), 3 EN (in), 4 FB (in), 5 SW (power)

## LM3671LC-1.2
designator U?
2MHz, 600mA Step-Down DC-DC Converter; PartNumber: LM3671LC-1.2; Manufacturer: National Semiconductor; CompType: MiscPower; PackageTopMarking: XTT*S39; PowerWise: N; FirstPublished: 4-Dec-2008; DatasheetVersion: Nov-2007; PackageVersion: revA, Oct-2006; PackageReference: LCA06B; Publisher: Altium Limited; PackageDescription: LLP, 2 x 2 x 0.6mm, 6 Lead, 0.5mm Pitch, No Pullback; RoHS: N; PinCount: 6; DigiKeyPartNumber: LM3671LC-1.2-ND; ComponentLink1Description: LM3671 Datasheet; ComponentLink1URL: http://www.national.com/ds/LM/LM3671.pdf; ComponentLink2Description: LM3671 Web Page; ComponentLink2URL: http://www.national.com/pf/LM/LM3671.html; ComponentLink3Description: LCA06B Package Page; ComponentLink3URL: http://www.national.com/packaging/folders/lca06b.html
footprint LCA06B (SON, 6-Leads, Body 2x2mm, Pitch 0.5mm, NSC Recommended)
pins: 1 EN (in), 2 PGND (power), 3 VIN (power), 4 SW (power), 5 SGND (power), 6 FB (in)

## LM3671LC-1.3
designator U?
2MHz, 600mA Step-Down DC-DC Converter; PartNumber: LM3671LC-1.3; Manufacturer: National Semiconductor; CompType: MiscPower; PackageTopMarking: XTT*S40; PowerWise: N; FirstPublished: 4-Dec-2008; DatasheetVersion: Nov-2007; PackageVersion: revA, Oct-2006; PackageReference: LCA06B; Publisher: Altium Limited; PackageDescription: LLP, 2 x 2 x 0.6mm, 6 Lead, 0.5mm Pitch, No Pullback; RoHS: N; PinCount: 6; DigiKeyPartNumber: LM3671LC-1.3-ND; ComponentLink1Description: LM3671 Datasheet; ComponentLink1URL: http://www.national.com/ds/LM/LM3671.pdf; ComponentLink2Description: LM3671 Web Page; ComponentLink2URL: http://www.national.com/pf/LM/LM3671.html; ComponentLink3Description: LCA06B Package Page; ComponentLink3URL: http://www.national.com/packaging/folders/lca06b.html
footprint LCA06B (SON, 6-Leads, Body 2x2mm, Pitch 0.5mm, NSC Recommended)
pins: 1 EN (in), 2 PGND (power), 3 VIN (power), 4 SW (power), 5 SGND (power), 6 FB (in)

## LM3671LC-1.6
designator U?
2MHz, 600mA Step-Down DC-DC Converter; PartNumber: LM3671LC-1.6; Manufacturer: National Semiconductor; CompType: MiscPower; PackageTopMarking: XTT*S41; PowerWise: N; FirstPublished: 4-Dec-2008; DatasheetVersion: Nov-2007; PackageVersion: revA, Oct-2006; PackageReference: LCA06B; Publisher: Altium Limited; PackageDescription: LLP, 2 x 2 x 0.6mm, 6 Lead, 0.5mm Pitch, No Pullback; RoHS: N; PinCount: 6; DigiKeyPartNumber: LM3671LC-1.6-ND; ComponentLink1Description: LM3671 Datasheet; ComponentLink1URL: http://www.national.com/ds/LM/LM3671.pdf; ComponentLink2Description: LM3671 Web Page; ComponentLink2URL: http://www.national.com/pf/LM/LM3671.html; ComponentLink3Description: LCA06B Package Page; ComponentLink3URL: http://www.national.com/packaging/folders/lca06b.html
footprint LCA06B (SON, 6-Leads, Body 2x2mm, Pitch 0.5mm, NSC Recommended)
pins: 1 EN (in), 2 PGND (power), 3 VIN (power), 4 SW (power), 5 SGND (power), 6 FB (in)

## LM3671LC-1.8
designator U?
2MHz, 600mA Step-Down DC-DC Converter; PartNumber: LM3671LC-1.8; Manufacturer: National Semiconductor; CompType: MiscPower; PackageTopMarking: XTT*S42; PowerWise: N; FirstPublished: 4-Dec-2008; DatasheetVersion: Nov-2007; PackageVersion: revA, Oct-2006; PackageReference: LCA06B; Publisher: Altium Limited; PackageDescription: LLP, 2 x 2 x 0.6mm, 6 Lead, 0.5mm Pitch, No Pullback; RoHS: N; PinCount: 6; DigiKeyPartNumber: LM3671LC-1.8-ND; ComponentLink1Description: LM3671 Datasheet; ComponentLink1URL: http://www.national.com/ds/LM/LM3671.pdf; ComponentLink2Description: LM3671 Web Page; ComponentLink2URL: http://www.national.com/pf/LM/LM3671.html; ComponentLink3Description: LCA06B Package Page; ComponentLink3URL: http://www.national.com/packaging/folders/lca06b.html
footprint LCA06B (SON, 6-Leads, Body 2x2mm, Pitch 0.5mm, NSC Recommended)
pins: 1 EN (in), 2 PGND (power), 3 VIN (power), 4 SW (power), 5 SGND (power), 6 FB (in)

## LM3671MF-1.2
designator U?
2MHz, 600mA Step-Down DC-DC Converter; PartNumber: LM3671MF-1.2; Manufacturer: National Semiconductor; CompType: MiscPower; PackageTopMarking: SBPB*XTT; PowerWise: Y; FirstPublished: 4-Dec-2008; DatasheetVersion: Nov-2007; PackageVersion: revD, Aug-2008; PackageReference: MF05A; Publisher: Altium Limited; PackageDescription: Molded SOT-23, .115 x .063 x .040 in Body, 5 Lead, .0375 in Pitch; RoHS: O; PinCount: 5; DigiKeyPartNumber: LM3671MF-1.2CT-ND; ComponentLink1Description: LM3671 Datasheet; ComponentLink1URL: http://www.national.com/ds/LM/LM3671.pdf; ComponentLink2Description: LM3671 Web Page; ComponentLink2URL: http://www.national.com/pf/LM/LM3671.html; ComponentLink3Description: MF05A Package Page; ComponentLink3URL: http://www.national.com/packaging/folders/mf05a.html
footprint MF05A_N (SOT23, 5-Leads, Body 2.9x1.6mm, Pitch 0.95mm, Lead Span 2.8mm, IPC Medium Density)
footprint MF05A_L (SOT23, 5-Leads, Body 2.9x1.6mm, Pitch 0.95mm, Lead Span 2.8mm, IPC High Density)
footprint MF05A_M (SOT23, 5-Leads, Body 2.9x1.6mm, Pitch 0.95mm, Lead Span 2.8mm, IPC Low Density)
pins: 1 VIN (power), 2 GND (power), 3 EN (in), 4 FB (in), 5 SW (power)

## LM3671MF-1.5
designator U?
2MHz, 600mA Step-Down DC-DC Converter; PartNumber: LM3671MF-1.5; Manufacturer: National Semiconductor; CompType: MiscPower; PackageTopMarking: SBRB*XTT; PowerWise: Y; FirstPublished: 4-Dec-2008; DatasheetVersion: Nov-2007; PackageVersion: revD, Aug-2008; PackageReference: MF05A; Publisher: Altium Limited; PackageDescription: Molded SOT-23, .115 x .063 x .040 in Body, 5 Lead, .0375 in Pitch; RoHS: O; PinCount: 5; DigiKeyPartNumber: LM3671MF-1.5EV-ND; ComponentLink1Description: LM3671 Datasheet; ComponentLink1URL: http://www.national.com/ds/LM/LM3671.pdf; ComponentLink2Description: LM3671 Web Page; ComponentLink2URL: http://www.national.com/pf/LM/LM3671.html; ComponentLink3Description: MF05A Package Page; ComponentLink3URL: http://www.national.com/packaging/folders/mf05a.html
footprint MF05A_N (SOT23, 5-Leads, Body 2.9x1.6mm, Pitch 0.95mm, Lead Span 2.8mm, IPC Medium Density)
footprint MF05A_L (SOT23, 5-Leads, Body 2.9x1.6mm, Pitch 0.95mm, Lead Span 2.8mm, IPC High Density)
footprint MF05A_M (SOT23, 5-Leads, Body 2.9x1.6mm, Pitch 0.95mm, Lead Span 2.8mm, IPC Low Density)
pins: 1 VIN (power), 2 GND (power), 3 EN (in), 4 FB (in), 5 SW (power)

## LM3671MF-1.6
designator U?
2MHz, 600mA Step-Down DC-DC Converter; PartNumber: LM3671MF-1.6; Manufacturer: National Semiconductor; CompType: MiscPower; PackageTopMarking: SDUB*XTT; PowerWise: Y; FirstPublished: 4-Dec-2008; DatasheetVersion: Nov-2007; PackageVersion: revD, Aug-2008; PackageReference: MF05A; Publisher: Altium Limited; PackageDescription: Molded SOT-23, .115 x .063 x .040 in Body, 5 Lead, .0375 in Pitch; RoHS: Y; PinCount: 5; DigiKeyPartNumber: LM3671MF-1.6CT-ND; ComponentLink1Description: LM3671 Datasheet; ComponentLink1URL: http://www.national.com/ds/LM/LM3671.pdf; ComponentLink2Description: LM3671 Web Page; ComponentLink2URL: http://www.national.com/pf/LM/LM3671.html; ComponentLink3Description: MF05A Package Page; ComponentLink3URL: http://www.national.com/packaging/folders/mf05a.html
footprint MF05A_N (SOT23, 5-Leads, Body 2.9x1.6mm, Pitch 0.95mm, Lead Span 2.8mm, IPC Medium Density)
footprint MF05A_L (SOT23, 5-Leads, Body 2.9x1.6mm, Pitch 0.95mm, Lead Span 2.8mm, IPC High Density)
footprint MF05A_M (SOT23, 5-Leads, Body 2.9x1.6mm, Pitch 0.95mm, Lead Span 2.8mm, IPC Low Density)
pins: 1 VIN (power), 2 GND (power), 3 EN (in), 4 FB (in), 5 SW (power)

## LM3671MF-1.8
designator U?
2MHz, 600mA Step-Down DC-DC Converter; PartNumber: LM3671MF-1.8; Manufacturer: National Semiconductor; CompType: MiscPower; PackageTopMarking: SBSB*XTT; PowerWise: Y; FirstPublished: 4-Dec-2008; DatasheetVersion: Nov-2007; PackageVersion: revD, Aug-2008; PackageReference: MF05A; Publisher: Altium Limited; PackageDescription: Molded SOT-23, .115 x .063 x .040 in Body, 5 Lead, .0375 in Pitch; RoHS: Y; PinCount: 5; DigiKeyPartNumber: LM3671MF-1.8EV-ND; ComponentLink1Description: LM3671 Datasheet; ComponentLink1URL: http://www.national.com/ds/LM/LM3671.pdf; ComponentLink2Description: LM3671 Web Page; ComponentLink2URL: http://www.national.com/pf/LM/LM3671.html; ComponentLink3Description: MF05A Package Page; ComponentLink3URL: http://www.national.com/packaging/folders/mf05a.html
footprint MF05A_N (SOT23, 5-Leads, Body 2.9x1.6mm, Pitch 0.95mm, Lead Span 2.8mm, IPC Medium Density)
footprint MF05A_L (SOT23, 5-Leads, Body 2.9x1.6mm, Pitch 0.95mm, Lead Span 2.8mm, IPC High Density)
footprint MF05A_M (SOT23, 5-Leads, Body 2.9x1.6mm, Pitch 0.95mm, Lead Span 2.8mm, IPC Low Density)
pins: 1 VIN (power), 2 GND (power), 3 EN (in), 4 FB (in), 5 SW (power)

## LM3671MF-1.25
designator U?
2MHz, 600mA Step-Down DC-DC Converter; PartNumber: LM3671MF-1.25; Manufacturer: National Semiconductor; CompType: MiscPower; PackageTopMarking: SDRB*XTT; PowerWise: Y; FirstPublished: 4-Dec-2008; DatasheetVersion: Nov-2007; PackageVersion: revD, Aug-2008; PackageReference: MF05A; Publisher: Altium Limited; PackageDescription: Molded SOT-23, .115 x .063 x .040 in Body, 5 Lead, .0375 in Pitch; RoHS: Y; PinCount: 5; DigiKeyPartNumber: LM3671MF-1.25CT-ND; ComponentLink1Description: LM3671 Datasheet; ComponentLink1URL: http://www.national.com/ds/LM/LM3671.pdf; ComponentLink2Description: LM3671 Web Page; ComponentLink2URL: http://www.national.com/pf/LM/LM3671.html; ComponentLink3Description: MF05A Package Page; ComponentLink3URL: http://www.national.com/packaging/folders/mf05a.html
footprint MF05A_N (SOT23, 5-Leads, Body 2.9x1.6mm, Pitch 0.95mm, Lead Span 2.8mm, IPC Medium Density)
footprint MF05A_L (SOT23, 5-Leads, Body 2.9x1.6mm, Pitch 0.95mm, Lead Span 2.8mm, IPC High Density)
footprint MF05A_M (SOT23, 5-Leads, Body 2.9x1.6mm, Pitch 0.95mm, Lead Span 2.8mm, IPC Low Density)
pins: 1 VIN (power), 2 GND (power), 3 EN (in), 4 FB (in), 5 SW (power)

## LM3671MF-1.375
designator U?
2MHz, 600mA Step-Down DC-DC Converter; PartNumber: LM3671MF-1.375; Manufacturer: National Semiconductor; CompType: MiscPower; PackageTopMarking: SEDB*XTT; PowerWise: Y; FirstPublished: 4-Dec-2008; DatasheetVersion: Nov-2007; PackageVersion: revD, Aug-2008; PackageReference: MF05A; Publisher: Altium Limited; PackageDescription: Molded SOT-23, .115 x .063 x .040 in Body, 5 Lead, .0375 in Pitch; RoHS: Y; PinCount: 5; DigiKeyPartNumber: LM3671MF-1.375CT-ND; ComponentLink1Description: LM3671 Datasheet; ComponentLink1URL: http://www.national.com/ds/LM/LM3671.pdf; ComponentLink2Description: LM3671 Web Page; ComponentLink2URL: http://www.national.com/pf/LM/LM3671.html; ComponentLink3Description: MF05A Package Page; ComponentLink3URL: http://www.national.com/packaging/folders/mf05a.html
footprint MF05A_N (SOT23, 5-Leads, Body 2.9x1.6mm, Pitch 0.95mm, Lead Span 2.8mm, IPC Medium Density)
footprint MF05A_L (SOT23, 5-Leads, Body 2.9x1.6mm, Pitch 0.95mm, Lead Span 2.8mm, IPC High Density)
footprint MF05A_M (SOT23, 5-Leads, Body 2.9x1.6mm, Pitch 0.95mm, Lead Span 2.8mm, IPC Low Density)
pins: 1 VIN (power), 2 GND (power), 3 EN (in), 4 FB (in), 5 SW (power)

## LM3671MF-1.875
designator U?
2MHz, 600mA Step-Down DC-DC Converter; PartNumber: LM3671MF-1.875; Manufacturer: National Semiconductor; CompType: MiscPower; PackageTopMarking: SDVB*XTT; PowerWise: Y; FirstPublished: 4-Dec-2008; DatasheetVersion: Nov-2007; PackageVersion: revD, Aug-2008; PackageReference: MF05A; Publisher: Altium Limited; PackageDescription: Molded SOT-23, .115 x .063 x .040 in Body, 5 Lead, .0375 in Pitch; RoHS: O; PinCount: 5; DigiKeyPartNumber: LM3671MF-1.875CT-ND; ComponentLink1Description: LM3671 Datasheet; ComponentLink1URL: http://www.national.com/ds/LM/LM3671.pdf; ComponentLink2Description: LM3671 Web Page; ComponentLink2URL: http://www.national.com/pf/LM/LM3671.html; ComponentLink3Description: MF05A Package Page; ComponentLink3URL: http://www.national.com/packaging/folders/mf05a.html
footprint MF05A_N (SOT23, 5-Leads, Body 2.9x1.6mm, Pitch 0.95mm, Lead Span 2.8mm, IPC Medium Density)
footprint MF05A_L (SOT23, 5-Leads, Body 2.9x1.6mm, Pitch 0.95mm, Lead Span 2.8mm, IPC High Density)
footprint MF05A_M (SOT23, 5-Leads, Body 2.9x1.6mm, Pitch 0.95mm, Lead Span 2.8mm, IPC Low Density)
pins: 1 VIN (power), 2 GND (power), 3 EN (in), 4 FB (in), 5 SW (power)

## LM3671MF-2.5
designator U?
2MHz, 600mA Step-Down DC-DC Converter; PartNumber: LM3671MF-2.5; Manufacturer: National Semiconductor; CompType: MiscPower; PackageTopMarking: SJRB*XTT; PowerWise: Y; FirstPublished: 4-Dec-2008; DatasheetVersion: Nov-2007; PackageVersion: revD, Aug-2008; PackageReference: MF05A; Publisher: Altium Limited; PackageDescription: Molded SOT-23, .115 x .063 x .040 in Body, 5 Lead, .0375 in Pitch; RoHS: Y; PinCount: 5; DigiKeyPartNumber: LM3671MF-2.5CT-ND; ComponentLink1Description: LM3671 Datasheet; ComponentLink1URL: http://www.national.com/ds/LM/LM3671.pdf; ComponentLink2Description: LM3671 Web Page; ComponentLink2URL: http://www.national.com/pf/LM/LM3671.html; ComponentLink3Description: MF05A Package Page; ComponentLink3URL: http://www.national.com/packaging/folders/mf05a.html
footprint MF05A_N (SOT23, 5-Leads, Body 2.9x1.6mm, Pitch 0.95mm, Lead Span 2.8mm, IPC Medium Density)
footprint MF05A_L (SOT23, 5-Leads, Body 2.9x1.6mm, Pitch 0.95mm, Lead Span 2.8mm, IPC High Density)
footprint MF05A_M (SOT23, 5-Leads, Body 2.9x1.6mm, Pitch 0.95mm, Lead Span 2.8mm, IPC Low Density)
pins: 1 VIN (power), 2 GND (power), 3 EN (in), 4 FB (in), 5 SW (power)

## LM3671MF-2.8
designator U?
2MHz, 600mA Step-Down DC-DC Converter; PartNumber: LM3671MF-2.8; Manufacturer: National Semiconductor; CompType: MiscPower; PackageTopMarking: SJSB*XTT; PowerWise: Y; FirstPublished: 4-Dec-2008; DatasheetVersion: Nov-2007; PackageVersion: revD, Aug-2008; PackageReference: MF05A; Publisher: Altium Limited; PackageDescription: Molded SOT-23, .115 x .063 x .040 in Body, 5 Lead, .0375 in Pitch; RoHS: Y; PinCount: 5; DigiKeyPartNumber: LM3671MF-2.8CT-ND; ComponentLink1Description: LM3671 Datasheet; ComponentLink1URL: http://www.national.com/ds/LM/LM3671.pdf; ComponentLink2Description: LM3671 Web Page; ComponentLink2URL: http://www.national.com/pf/LM/LM3671.html; ComponentLink3Description: MF05A Package Page; ComponentLink3URL: http://www.national.com/packaging/folders/mf05a.html
footprint MF05A_N (SOT23, 5-Leads, Body 2.9x1.6mm, Pitch 0.95mm, Lead Span 2.8mm, IPC Medium Density)
footprint MF05A_L (SOT23, 5-Leads, Body 2.9x1.6mm, Pitch 0.95mm, Lead Span 2.8mm, IPC High Density)
footprint MF05A_M (SOT23, 5-Leads, Body 2.9x1.6mm, Pitch 0.95mm, Lead Span 2.8mm, IPC Low Density)
pins: 1 VIN (power), 2 GND (power), 3 EN (in), 4 FB (in), 5 SW (power)

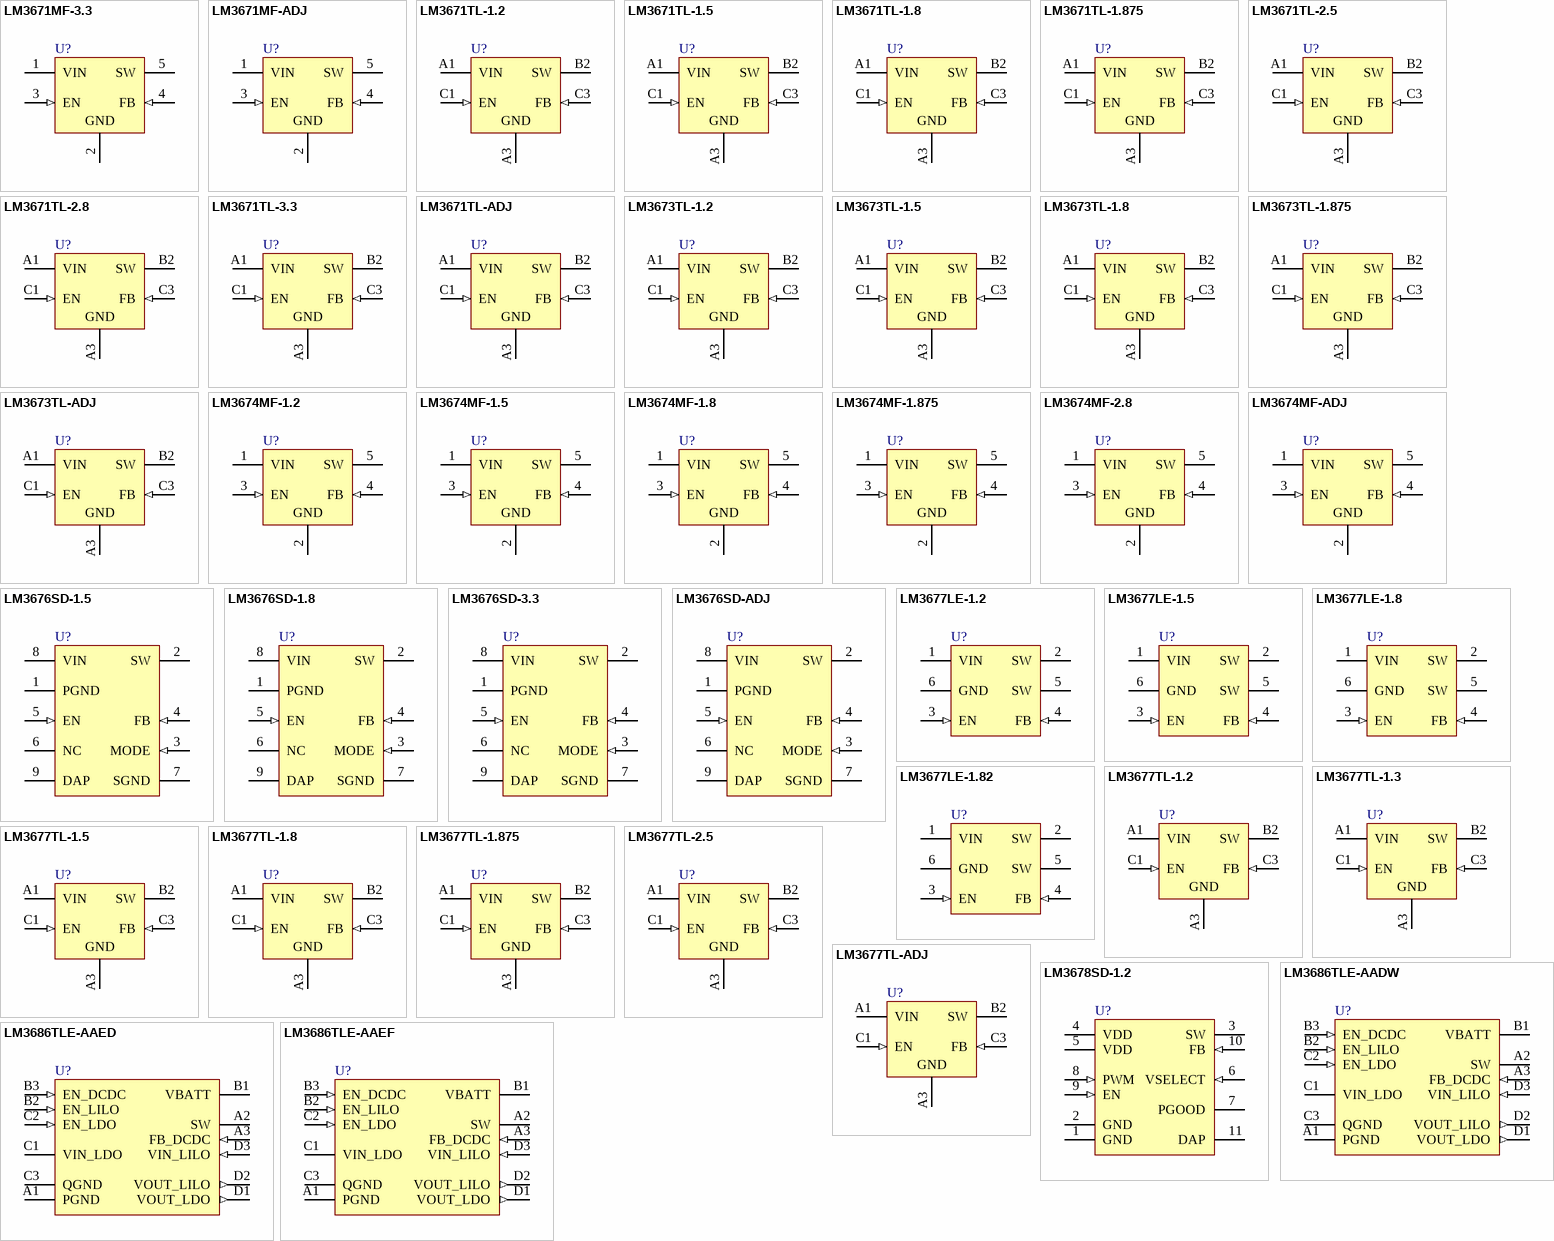
[diagram p11: symbols LM3671MF-3.3 to LM3686TLE-AAEF]

## LM3671MF-3.3
designator U?
2MHz, 600mA Step-Down DC-DC Converter; PartNumber: LM3671MF-3.3; Manufacturer: National Semiconductor; CompType: MiscPower; PackageTopMarking: SJEB*XTT; PowerWise: Y; FirstPublished: 4-Dec-2008; DatasheetVersion: Nov-2007; PackageVersion: revD, Aug-2008; PackageReference: MF05A; Publisher: Altium Limited; PackageDescription: Molded SOT-23, .115 x .063 x .040 in Body, 5 Lead, .0375 in Pitch; RoHS: O; PinCount: 5; DigiKeyPartNumber: LM3671MF-3.3CT-ND; ComponentLink1Description: LM3671 Datasheet; ComponentLink1URL: http://www.national.com/ds/LM/LM3671.pdf; ComponentLink2Description: LM3671 Web Page; ComponentLink2URL: http://www.national.com/pf/LM/LM3671.html; ComponentLink3Description: MF05A Package Page; ComponentLink3URL: http://www.national.com/packaging/folders/mf05a.html
footprint MF05A_N (SOT23, 5-Leads, Body 2.9x1.6mm, Pitch 0.95mm, Lead Span 2.8mm, IPC Medium Density)
footprint MF05A_L (SOT23, 5-Leads, Body 2.9x1.6mm, Pitch 0.95mm, Lead Span 2.8mm, IPC High Density)
footprint MF05A_M (SOT23, 5-Leads, Body 2.9x1.6mm, Pitch 0.95mm, Lead Span 2.8mm, IPC Low Density)
pins: 1 VIN (power), 2 GND (power), 3 EN (in), 4 FB (in), 5 SW (power)

## LM3671MF-ADJ
designator U?
2MHz, 600mA Step-Down DC-DC Converter; PartNumber: LM3671MF-ADJ; Manufacturer: National Semiconductor; CompType: MiscPower; PackageTopMarking: SBTB*XTT; PowerWise: Y; FirstPublished: 4-Dec-2008; DatasheetVersion: Nov-2007; PackageVersion: revD, Aug-2008; PackageReference: MF05A; Publisher: Altium Limited; PackageDescription: Molded SOT-23, .115 x .063 x .040 in Body, 5 Lead, .0375 in Pitch; RoHS: O; PinCount: 5; DigiKeyPartNumber: LM3671MF-ADJCT-ND; ComponentLink1Description: LM3671 Datasheet; ComponentLink1URL: http://www.national.com/ds/LM/LM3671.pdf; ComponentLink2Description: LM3671 Web Page; ComponentLink2URL: http://www.national.com/pf/LM/LM3671.html; ComponentLink3Description: MF05A Package Page; ComponentLink3URL: http://www.national.com/packaging/folders/mf05a.html
footprint MF05A_N (SOT23, 5-Leads, Body 2.9x1.6mm, Pitch 0.95mm, Lead Span 2.8mm, IPC Medium Density)
footprint MF05A_L (SOT23, 5-Leads, Body 2.9x1.6mm, Pitch 0.95mm, Lead Span 2.8mm, IPC High Density)
footprint MF05A_M (SOT23, 5-Leads, Body 2.9x1.6mm, Pitch 0.95mm, Lead Span 2.8mm, IPC Low Density)
pins: 1 VIN (power), 2 GND (power), 3 EN (in), 4 FB (in), 5 SW (power)

## LM3671TL-1.2
designator U?
2MHz, 600mA Step-Down DC-DC Converter; PartNumber: LM3671TL-1.2; Manufacturer: National Semiconductor; CompType: MiscPower; PackageTopMarking: XV*I C; PowerWise: Y; FirstPublished: 4-Dec-2008; DatasheetVersion: Nov-2007; PackageVersion: revC, Feb-2005; PackageReference: TLA05CBA; Publisher: Altium Limited; PackageDescription: Thin Micro SMD, 5 Bump (Large), 0.5mm Pitch; RoHS: Y; PinCount: 5; DigiKeyPartNumber: LM3671TL-1.2CT-ND; ComponentLink1Description: LM3671 Datasheet; ComponentLink1URL: http://www.national.com/ds/LM/LM3671.pdf; ComponentLink2Description: LM3671 Web Page; ComponentLink2URL: http://www.national.com/pf/LM/LM3671.html; ComponentLink3Description: TLA05CBA Package Page; ComponentLink3URL: http://www.national.com/packaging/folders/tla05cba.html
footprint TLA05CBA (Micro SMD, 5-Leads, Body 1.39x1.06mm, Pitch 0.5mm, NSC Recommended)
pins: A1 VIN (power), A3 GND (power), B2 SW (power), C1 EN (in), C3 FB (in)

## LM3671TL-1.5
designator U?
2MHz, 600mA Step-Down DC-DC Converter; PartNumber: LM3671TL-1.5; Manufacturer: National Semiconductor; CompType: MiscPower; PackageTopMarking: XV*I D; PowerWise: Y; FirstPublished: 4-Dec-2008; DatasheetVersion: Nov-2007; PackageVersion: revC, Feb-2005; PackageReference: TLA05CBA; Publisher: Altium Limited; PackageDescription: Thin Micro SMD, 5 Bump (Large), 0.5mm Pitch; RoHS: Y; PinCount: 5; DigiKeyPartNumber: LM3671TL-1.5EV-ND; ComponentLink1Description: LM3671 Datasheet; ComponentLink1URL: http://www.national.com/ds/LM/LM3671.pdf; ComponentLink2Description: LM3671 Web Page; ComponentLink2URL: http://www.national.com/pf/LM/LM3671.html; ComponentLink3Description: TLA05CBA Package Page; ComponentLink3URL: http://www.national.com/packaging/folders/tla05cba.html
footprint TLA05CBA (Micro SMD, 5-Leads, Body 1.39x1.06mm, Pitch 0.5mm, NSC Recommended)
pins: A1 VIN (power), A3 GND (power), B2 SW (power), C1 EN (in), C3 FB (in)